# Altium schematic symbol library 22-03-5025.SchLib: 1 symbol
Pins are listed as number, name and electrical type; pins without a type are passive.

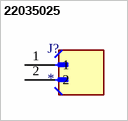
[diagram p0: symbol 22035025]

## 22035025
designator J?
2.50mm Pitch, Mini-SPOX PCB Header, Single Row, Vertical, Through Hole, Tin Plating, 2 Circuits, Bag, 3.50mm PC Tail Length; MP: 22035025; MF: {'manufacturer': u'Molex'}; Package: None; Availability: Unavailable; Value: *; Price: None
footprint MOLEX_22035025
pins: 1, 2